# Altium footprint library WR-PHD_Pin Header.PcbLib: 232 footprints (part 8 of 15)
Each footprint in its own frame and in the unit in brackets; x right, y up, seen from the top. Pads: shape width x height; smd on the part's side, far side on the other; paste and mask are expansions set on the pad; w line width, h text height; cw(c..) or ccw(c..) is an arc to the next point about the centre after c.
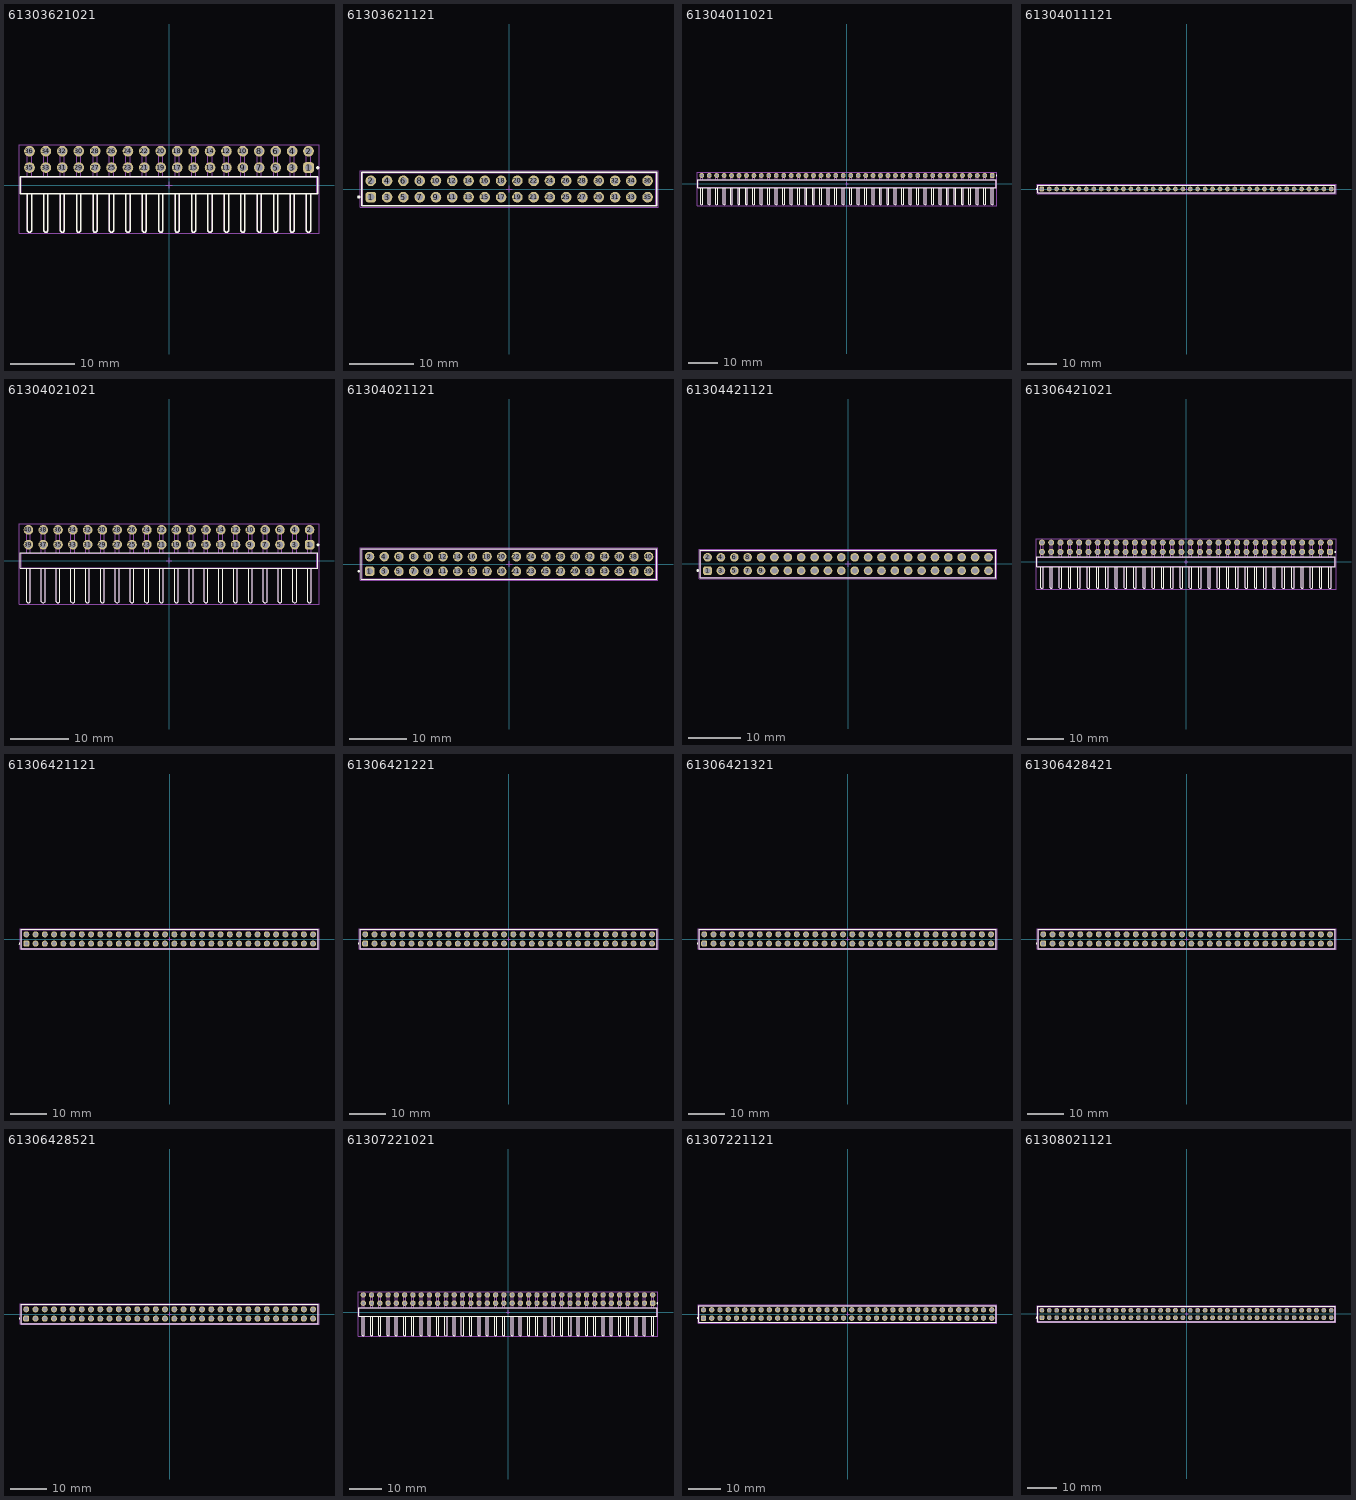
[diagram p7: the footprints below, top view; thin cyan lines are the x and y axes]

## 61303621021 [mm] "Pin Header, pitch 2.54 mm, THT, Angled, dual row, 36p"
height 5.08
pads (36):
  rrect50% 1.65x1.65 hole 1.1: 1(21.59,2.73)
  round 1.65 hole 1.1: 2(21.59,5.27) 3(19.05,2.73) 4(19.05,5.27) 5(16.51,2.73) 6(16.51,5.27) 7(13.97,2.73) 8(13.97,5.27) 9(11.43,2.73) 10(11.43,5.27) 11(8.89,2.73) 12(8.89,5.27) 13(6.35,2.73) 14(6.35,5.27) 15(3.81,2.73) 16(3.81,5.27) 17(1.27,2.73) 18(1.27,5.27) 19(-1.27,2.73) 20(-1.27,5.27) 21(-3.81,2.73) 22(-3.81,5.27) 23(-6.35,2.73) 24(-6.35,5.27) 25(-8.89,2.73) 26(-8.89,5.27) 27(-11.43,2.73) 28(-11.43,5.27) 29(-13.97,2.73) 30(-13.97,5.27) 31(-16.51,2.73) 32(-16.51,5.27) 33(-19.05,2.73) 34(-19.05,5.27) 35(-21.59,2.73) 36(-21.59,5.27)
Top Overlay:
  circle w0.25: c23.02,2.7 r0.125
  lines w0.2: -21.91,-1.345 -21.91,-7.07 -21.71,-7.27 -21.47,-7.27 -21.27,-7.07 -21.27,-1.345 ; -19.37,-1.345 -19.37,-7.07 -19.17,-7.27 -18.93,-7.27 -18.73,-7.07 -18.73,-1.345 ; -16.83,-1.345 -16.83,-7.07 -16.63,-7.27 -16.39,-7.27 -16.19,-7.07 -16.19,-1.345 ; -14.29,-1.345 -14.29,-7.07 -14.09,-7.27 -13.85,-7.27 -13.65,-7.07 -13.65,-1.345 ; -11.75,-1.345 -11.75,-7.07 -11.55,-7.27 -11.31,-7.27 -11.11,-7.07 -11.11,-1.345 ; -9.21,-1.345 -9.21,-7.07 -9.01,-7.27 -8.77,-7.27 -8.57,-7.07 -8.57,-1.345 ; -6.67,-1.345 -6.67,-7.07 -6.47,-7.27 -6.23,-7.27 -6.03,-7.07 -6.03,-1.345 ; -4.13,-1.345 -4.13,-7.07 -3.93,-7.27 -3.69,-7.27 -3.49,-7.07 -3.49,-1.345 ; -1.59,-1.345 -1.59,-7.07 -1.39,-7.27 -1.15,-7.27 -0.95,-7.07 -0.95,-1.345 ; 0.95,-1.345 0.95,-7.07 1.15,-7.27 1.39,-7.27 1.59,-7.07 1.59,-1.345 ; 3.49,-1.345 3.49,-7.07 3.69,-7.27 3.93,-7.27 4.13,-7.07 4.13,-1.345 ; 6.03,-1.345 6.03,-7.07 6.23,-7.27 6.47,-7.27 6.67,-7.07 6.67,-1.345 ; 8.57,-1.345 8.57,-7.07 8.77,-7.27 9.01,-7.27 9.21,-7.07 9.21,-1.345 ; 11.11,-1.345 11.11,-7.07 11.31,-7.27 11.55,-7.27 11.75,-7.07 11.75,-1.345 ; 13.65,-1.345 13.65,-7.07 13.85,-7.27 14.09,-7.27 14.29,-7.07 14.29,-1.345 ; 16.19,-1.345 16.19,-7.07 16.39,-7.27 16.63,-7.27 16.83,-7.07 16.83,-1.345 ; 18.73,-1.345 18.73,-7.07 18.93,-7.27 19.17,-7.27 19.37,-7.07 19.37,-1.345 ; 21.27,-1.345 21.27,-7.07 21.47,-7.27 21.71,-7.27 21.91,-7.07 21.91,-1.345 ; -23.01,-1.345 23.01,-1.345 23.01,1.345 -23.01,1.345 -23.01,-1.345
Top Designator:
  text ".Designator" at -7.498,-0.5 h1.5
Top Component Outline:
  drawing of 167 lines, arcs and shapes, not listed
Top Courtyard:
  lines w0.05: -23.21,-7.47 23.21,-7.47 23.21,6.295 -23.21,6.295 -23.21,-7.47
Top Component Center:
  lines w0.05: -0.5,0 0.5,0 ; 0,-0.5 0,0.5
3D body "61303621021.stp": height 5.12, standoff -2.96, extent -22.86,-7.27 22.86,5.63

## 61303621121 [mm] "Pin Header, pitch 2.54 mm, THT, Vertical, dual row, 36p"
height 8.54
pads (36):
  rrect50% 1.65x1.65 hole 1.1: 1(-21.59,-1.27)
  round 1.65 hole 1.1: 2(-21.59,1.27) 3(-19.05,-1.27) 4(-19.05,1.27) 5(-16.51,-1.27) 6(-16.51,1.27) 7(-13.97,-1.27) 8(-13.97,1.27) 9(-11.43,-1.27) 10(-11.43,1.27) 11(-8.89,-1.27) 12(-8.89,1.27) 13(-6.35,-1.27) 14(-6.35,1.27) 15(-3.81,-1.27) 16(-3.81,1.27) 17(-1.27,-1.27) 18(-1.27,1.27) 19(1.27,-1.27) 20(1.27,1.27) 21(3.81,-1.27) 22(3.81,1.27) 23(6.35,-1.27) 24(6.35,1.27) 25(8.89,-1.27) 26(8.89,1.27) 27(11.43,-1.27) 28(11.43,1.27) 29(13.97,-1.27) 30(13.97,1.27) 31(16.51,-1.27) 32(16.51,1.27) 33(19.05,-1.27) 34(19.05,1.27) 35(21.59,-1.27) 36(21.59,1.27)
Top Overlay:
  circle w0.25: c-23.47,-1.25 r0.125
  lines w0.2: -23.01,-2.615 -23.01,2.615 23.01,2.615 23.01,-2.615 -23.01,-2.615
Top Designator:
  text ".Designator" at -7.498,-0.5 h1.5
Top Component Outline:
  lines w0.1: -22.86,-2.54 -22.86,2.54 22.86,2.54 22.86,-2.54 -22.86,-2.54
Top Courtyard:
  lines w0.05: -23.21,-2.815 23.21,-2.815 23.21,2.815 -23.21,2.815 -23.21,-2.815
Top Component Center:
  lines w0.05: -0.5,0 0.5,0 ; 0,-0.5 0,0.5
3D body "61303621121.stp": height 8.59, standoff -2.95, extent -22.86,-2.54 22.86,2.54

## 61304011021 [mm] "Pin Header, pitch 2.54 mm, THT, Angled, single row, 40p"
height 2.54
pads (40):
  rrect50% 1.65x1.65 hole 1.1: 1(49.53,2.77)
  round 1.65 hole 1.1: 2(46.99,2.77) 3(44.45,2.77) 4(41.91,2.77) 5(39.37,2.77) 6(36.83,2.77) 7(34.29,2.77) 8(31.75,2.77) 9(29.21,2.77) 10(26.67,2.77) 11(24.13,2.77) 12(21.59,2.77) 13(19.05,2.77) 14(16.51,2.77) 15(13.97,2.77) 16(11.43,2.77) 17(8.89,2.77) 18(6.35,2.77) 19(3.81,2.77) 20(1.27,2.77) 21(-1.27,2.77) 22(-3.81,2.77) 23(-6.35,2.77) 24(-8.89,2.77) 25(-11.43,2.77) 26(-13.97,2.77) 27(-16.51,2.77) 28(-19.05,2.77) 29(-21.59,2.77) 30(-24.13,2.77) 31(-26.67,2.77) 32(-29.21,2.77) 33(-31.75,2.77) 34(-34.29,2.77) 35(-36.83,2.77) 36(-39.37,2.77) 37(-41.91,2.77) 38(-44.45,2.77) 39(-46.99,2.77) 40(-49.53,2.77)
Top Overlay:
  drawing of 165 lines, arcs and shapes, not listed
Top Designator:
  text ".Designator" at -7.498,-0.5 h1.5
Top Component Outline:
  drawing of 284 lines, arcs and shapes, not listed
Top Courtyard:
  lines w0.05: -51.15,-7.47 -51.15,3.795 51.15,3.795 51.15,-7.47 -51.15,-7.47
Top Component Center:
  lines w0.05: -0.5,0 0.5,0 ; 0,-0.5 0,0.5
3D body "61304011021.stp": height 2.58, standoff -2.96, extent -50.8,-7.27 50.8,3.09

## 61304011121 [mm] "Pin Header, pitch 2.54 mm, THT, Vertical, single row, 40p"
height 8.54
pads (40):
  rrect50% 1.6x1.6 hole 1.1: 1(-49.53,0)
  round 1.6 hole 1.1: 2(-46.99,0) 3(-44.45,0) 4(-41.91,0) 5(-39.37,0) 6(-36.83,0) 7(-34.29,0) 8(-31.75,0) 9(-29.21,0) 10(-26.67,0) 11(-24.13,0) 12(-21.59,0) 13(-19.05,0) 14(-16.51,0) 15(-13.97,0) 16(-11.43,0) 17(-8.89,0) 18(-6.35,0) 19(-3.81,0) 20(-1.27,0) 21(1.27,0) 22(3.81,0) 23(6.35,0) 24(8.89,0) 25(11.43,0) 26(13.97,0) 27(16.51,0) 28(19.05,0) 29(21.59,0) 30(24.13,0) 31(26.67,0) 32(29.21,0) 33(31.75,0) 34(34.29,0) 35(36.83,0) 36(39.37,0) 37(41.91,0) 38(44.45,0) 39(46.99,0) 40(49.53,0)
Top Overlay:
  circle w0.25: c-51.4,0 r0.125
  lines w0.2: -50.95,-1.345 -50.95,1.345 50.95,1.345 50.95,-1.345 -50.95,-1.345
Top Designator:
  text ".Designator" at -7.498,-0.5 h1.5
Top Component Outline:
  lines w0.1: -50.8,-1.27 -50.8,1.27 50.8,1.27 50.8,-1.27 -50.8,-1.27
Top Courtyard:
  lines w0.05: -51.15,-1.545 51.15,-1.545 51.15,1.545 -51.15,1.545 -51.15,-1.545
Top Component Center:
  lines w0.05: -0.5,0 0.5,0 ; 0,-0.5 0,0.5
3D body "61304011121.stp": height 8.57, standoff -2.97, extent -50.8,-1.27 50.8,1.27

## 61304021021 [mm] "Pin Header, pitch 2.54 mm, THT, Angled, dual row, 40p"
height 5.08
pads (40):
  rrect50% 1.65x1.65 hole 1.1: 1(24.13,2.73)
  round 1.65 hole 1.1: 2(24.13,5.27) 3(21.59,2.73) 4(21.59,5.27) 5(19.05,2.73) 6(19.05,5.27) 7(16.51,2.73) 8(16.51,5.27) 9(13.97,2.73) 10(13.97,5.27) 11(11.43,2.73) 12(11.43,5.27) 13(8.89,2.73) 14(8.89,5.27) 15(6.35,2.73) 16(6.35,5.27) 17(3.81,2.73) 18(3.81,5.27) 19(1.27,2.73) 20(1.27,5.27) 21(-1.27,2.73) 22(-1.27,5.27) 23(-3.81,2.73) 24(-3.81,5.27) 25(-6.35,2.73) 26(-6.35,5.27) 27(-8.89,2.73) 28(-8.89,5.27) 29(-11.43,2.73) 30(-11.43,5.27) 31(-13.97,2.73) 32(-13.97,5.27) 33(-16.51,2.73) 34(-16.51,5.27) 35(-19.05,2.73) 36(-19.05,5.27) 37(-21.59,2.73) 38(-21.59,5.27) 39(-24.13,2.73) 40(-24.13,5.27)
Top Overlay:
  circle w0.25: c25.56,2.7 r0.125
  lines w0.2: -24.45,-1.345 -24.45,-7.07 -24.25,-7.27 -24.01,-7.27 -23.81,-7.07 -23.81,-1.345 ; -21.91,-1.345 -21.91,-7.07 -21.71,-7.27 -21.47,-7.27 -21.27,-7.07 -21.27,-1.345 ; -19.37,-1.345 -19.37,-7.07 -19.17,-7.27 -18.93,-7.27 -18.73,-7.07 -18.73,-1.345 ; -16.83,-1.345 -16.83,-7.07 -16.63,-7.27 -16.39,-7.27 -16.19,-7.07 -16.19,-1.345 ; -14.29,-1.345 -14.29,-7.07 -14.09,-7.27 -13.85,-7.27 -13.65,-7.07 -13.65,-1.345 ; -11.75,-1.345 -11.75,-7.07 -11.55,-7.27 -11.31,-7.27 -11.11,-7.07 -11.11,-1.345 ; -9.21,-1.345 -9.21,-7.07 -9.01,-7.27 -8.77,-7.27 -8.57,-7.07 -8.57,-1.345 ; -6.67,-1.345 -6.67,-7.07 -6.47,-7.27 -6.23,-7.27 -6.03,-7.07 -6.03,-1.345 ; -4.13,-1.345 -4.13,-7.07 -3.93,-7.27 -3.69,-7.27 -3.49,-7.07 -3.49,-1.345 ; -1.59,-1.345 -1.59,-7.07 -1.39,-7.27 -1.15,-7.27 -0.95,-7.07 -0.95,-1.345 ; 0.95,-1.345 0.95,-7.07 1.15,-7.27 1.39,-7.27 1.59,-7.07 1.59,-1.345 ; 3.49,-1.345 3.49,-7.07 3.69,-7.27 3.93,-7.27 4.13,-7.07 4.13,-1.345 ; 6.03,-1.345 6.03,-7.07 6.23,-7.27 6.47,-7.27 6.67,-7.07 6.67,-1.345 ; 8.57,-1.345 8.57,-7.07 8.77,-7.27 9.01,-7.27 9.21,-7.07 9.21,-1.345 ; 11.11,-1.345 11.11,-7.07 11.31,-7.27 11.55,-7.27 11.75,-7.07 11.75,-1.345 ; 13.65,-1.345 13.65,-7.07 13.85,-7.27 14.09,-7.27 14.29,-7.07 14.29,-1.345 ; 16.19,-1.345 16.19,-7.07 16.39,-7.27 16.63,-7.27 16.83,-7.07 16.83,-1.345 ; 18.73,-1.345 18.73,-7.07 18.93,-7.27 19.17,-7.27 19.37,-7.07 19.37,-1.345 ; 21.27,-1.345 21.27,-7.07 21.47,-7.27 21.71,-7.27 21.91,-7.07 21.91,-1.345 ; 23.81,-1.345 23.81,-7.07 24.01,-7.27 24.25,-7.27 24.45,-7.07 24.45,-1.345 ; -25.55,-1.345 -25.55,1.345 25.55,1.345 25.55,-1.345 -25.55,-1.345
Top Designator:
  text ".Designator" at -7.498,-0.5 h1.5
Top Component Outline:
  drawing of 185 lines, arcs and shapes, not listed
Top Courtyard:
  lines w0.05: -25.75,-7.47 -25.75,6.295 25.75,6.295 25.75,-7.47 -25.75,-7.47
Top Component Center:
  lines w0.05: -0.5,0 0.5,0 ; 0,-0.5 0,0.5
3D body "61304021021.stp": height 5.12, standoff -2.96, extent -25.4,-7.27 25.4,5.63

## 61304021121 [mm] "Pin Header, pitch 2.54 mm, THT, Vertical, dual row, 40p"
height 8.54
pads (40):
  rrect50% 1.65x1.65 hole 1.1: 1(-24.13,-1.27)
  round 1.65 hole 1.1: 2(-24.13,1.27) 3(-21.59,-1.27) 4(-21.59,1.27) 5(-19.05,-1.27) 6(-19.05,1.27) 7(-16.51,-1.27) 8(-16.51,1.27) 9(-13.97,-1.27) 10(-13.97,1.27) 11(-11.43,-1.27) 12(-11.43,1.27) 13(-8.89,-1.27) 14(-8.89,1.27) 15(-6.35,-1.27) 16(-6.35,1.27) 17(-3.81,-1.27) 18(-3.81,1.27) 19(-1.27,-1.27) 20(-1.27,1.27) 21(1.27,-1.27) 22(1.27,1.27) 23(3.81,-1.27) 24(3.81,1.27) 25(6.35,-1.27) 26(6.35,1.27) 27(8.89,-1.27) 28(8.89,1.27) 29(11.43,-1.27) 30(11.43,1.27) 31(13.97,-1.27) 32(13.97,1.27) 33(16.51,-1.27) 34(16.51,1.27) 35(19.05,-1.27) 36(19.05,1.27) 37(21.59,-1.27) 38(21.59,1.27) 39(24.13,-1.27) 40(24.13,1.27)
Top Overlay:
  circle w0.25: c-26.01,-1.25 r0.125
  lines w0.2: -25.55,-2.615 25.55,-2.615 25.55,2.615 -25.55,2.615 -25.55,-2.615
Top Designator:
  text ".Designator" at -7.498,-0.5 h1.5
Top Component Outline:
  lines w0.1: -25.4,-2.54 25.4,-2.54 25.4,2.54 -25.4,2.54 -25.4,-2.54
Top Courtyard:
  lines w0.05: -25.75,-2.815 -25.75,2.815 25.75,2.815 25.75,-2.815 -25.75,-2.815
Top Component Center:
  lines w0.05: -0.5,0 0.5,0 ; 0,-0.5 0,0.5
3D body "61304021121.stp": height 8.59, standoff -2.95, extent -25.4,-2.54 25.4,2.54

## 61304421121 [mm] "Pin Header, pitch 2.54 mm, THT, Vertical, dual row, 44p"
height 8.54
pads (44):
  rrect50% 1.65x1.65 hole 1.1: 1(-26.67,-1.27)
  round 1.65 hole 1.1: 2(-26.67,1.27) 3(-24.13,-1.27) 4(-24.13,1.27) 5(-21.59,-1.27) 6(-21.59,1.27) 7(-19.05,-1.27) 8(-19.05,1.27) 9(-16.51,-1.27) 10(-16.51,1.27) 11(-13.97,-1.27) 12(-13.97,1.27) 13(-11.43,-1.27) 14(-11.43,1.27) 15(-8.89,-1.27) 16(-8.89,1.27) 17(-6.35,-1.27) 18(-6.35,1.27) 19(-3.81,-1.27) 20(-3.81,1.27) 21(-1.27,-1.27) 22(-1.27,1.27) 23(1.27,-1.27) 24(1.27,1.27) 25(3.81,-1.27) 26(3.81,1.27) 27(6.35,-1.27) 28(6.35,1.27) 29(8.89,-1.27) 30(8.89,1.27) 31(11.43,-1.27) 32(11.43,1.27) 33(13.97,-1.27) 34(13.97,1.27) 35(16.51,-1.27) 36(16.51,1.27) 37(19.05,-1.27) 38(19.05,1.27) 39(21.59,-1.27) 40(21.59,1.27) 41(24.13,-1.27) 42(24.13,1.27) 43(26.67,-1.27) 44(26.67,1.27)
Top Overlay:
  circle w0.25: c-28.55,-1.25 r0.125
  lines w0.2: -28.09,-2.615 -28.09,2.615 28.09,2.615 28.09,-2.615 -28.09,-2.615
Top Designator:
  text ".Designator" at -7.498,-0.5 h1.5
Top Component Outline:
  lines w0.1: -27.94,-2.54 -27.94,2.54 27.94,2.54 27.94,-2.54 -27.94,-2.54
Top Courtyard:
  lines w0.05: -28.29,-2.815 28.29,-2.815 28.29,2.815 -28.29,2.815 -28.29,-2.815
Top Component Center:
  lines w0.05: -0.5,0 0.5,0 ; 0,-0.5 0,0.5
3D body "61304421121.stp": height 8.59, standoff -2.95, extent -27.94,-2.54 27.94,2.54

## 61306421021 [mm] "Pin Header, pitch 2.54 mm, THT, Angled, dual row, 64p"
height 5.08
pads (64):
  rrect50% 1.65x1.65 hole 1.1: 1(39.37,2.73)
  round 1.65 hole 1.1: 2(39.37,5.27) 3(36.83,2.73) 4(36.83,5.27) 5(34.29,2.73) 6(34.29,5.27) 7(31.75,2.73) 8(31.75,5.27) 9(29.21,2.73) 10(29.21,5.27) 11(26.67,2.73) 12(26.67,5.27) 13(24.13,2.73) 14(24.13,5.27) 15(21.59,2.73) 16(21.59,5.27) 17(19.05,2.73) 18(19.05,5.27) 19(16.51,2.73) 20(16.51,5.27) 21(13.97,2.73) 22(13.97,5.27) 23(11.43,2.73) 24(11.43,5.27) 25(8.89,2.73) 26(8.89,5.27) 27(6.35,2.73) 28(6.35,5.27) 29(3.81,2.73) 30(3.81,5.27) 31(1.27,2.73) 32(1.27,5.27) 33(-1.27,2.73) 34(-1.27,5.27) 35(-3.81,2.73) 36(-3.81,5.27) 37(-6.35,2.73) 38(-6.35,5.27) 39(-8.89,2.73) 40(-8.89,5.27) 41(-11.43,2.73) 42(-11.43,5.27) 43(-13.97,2.73) 44(-13.97,5.27) 45(-16.51,2.73) 46(-16.51,5.27) 47(-19.05,2.73) 48(-19.05,5.27) 49(-21.59,2.73) 50(-21.59,5.27) 51(-24.13,2.73) 52(-24.13,5.27) 53(-26.67,2.73) 54(-26.67,5.27) 55(-29.21,2.73) 56(-29.21,5.27) 57(-31.75,2.73) 58(-31.75,5.27) 59(-34.29,2.73) 60(-34.29,5.27) 61(-36.83,2.73) 62(-36.83,5.27) 63(-39.37,2.73) 64(-39.37,5.27)
Top Overlay:
  drawing of 165 lines, arcs and shapes, not listed
Top Designator:
  text ".Designator" at -7.498,-0.5 h1.5
Top Component Outline:
  drawing of 293 lines, arcs and shapes, not listed
Top Courtyard:
  lines w0.05: -40.99,-7.47 -40.99,6.295 40.99,6.295 40.99,-7.47 -40.99,-7.47
Top Component Center:
  lines w0.05: -0.5,0 0.5,0 ; 0,-0.5 0,0.5
3D body "61306421021.stp": height 5.12, standoff -2.96, extent -40.64,-7.27 40.64,5.63

## 61306421121 [mm] "Pin Header, pitch 2.54 mm, THT, Vertical, dual row, 64p"
height 8.54
pads (64):
  rrect50% 1.65x1.65 hole 1.1: 1(-39.37,-1.27)
  round 1.65 hole 1.1: 2(-39.37,1.27) 3(-36.83,-1.27) 4(-36.83,1.27) 5(-34.29,-1.27) 6(-34.29,1.27) 7(-31.75,-1.27) 8(-31.75,1.27) 9(-29.21,-1.27) 10(-29.21,1.27) 11(-26.67,-1.27) 12(-26.67,1.27) 13(-24.13,-1.27) 14(-24.13,1.27) 15(-21.59,-1.27) 16(-21.59,1.27) 17(-19.05,-1.27) 18(-19.05,1.27) 19(-16.51,-1.27) 20(-16.51,1.27) 21(-13.97,-1.27) 22(-13.97,1.27) 23(-11.43,-1.27) 24(-11.43,1.27) 25(-8.89,-1.27) 26(-8.89,1.27) 27(-6.35,-1.27) 28(-6.35,1.27) 29(-3.81,-1.27) 30(-3.81,1.27) 31(-1.27,-1.27) 32(-1.27,1.27) 33(1.27,-1.27) 34(1.27,1.27) 35(3.81,-1.27) 36(3.81,1.27) 37(6.35,-1.27) 38(6.35,1.27) 39(8.89,-1.27) 40(8.89,1.27) 41(11.43,-1.27) 42(11.43,1.27) 43(13.97,-1.27) 44(13.97,1.27) 45(16.51,-1.27) 46(16.51,1.27) 47(19.05,-1.27) 48(19.05,1.27) 49(21.59,-1.27) 50(21.59,1.27) 51(24.13,-1.27) 52(24.13,1.27) 53(26.67,-1.27) 54(26.67,1.27) 55(29.21,-1.27) 56(29.21,1.27) 57(31.75,-1.27) 58(31.75,1.27) 59(34.29,-1.27) 60(34.29,1.27) 61(36.83,-1.27) 62(36.83,1.27) 63(39.37,-1.27) 64(39.37,1.27)
Top Overlay:
  circle w0.25: c-41.25,-1.25 r0.125
  lines w0.2: -40.79,-2.615 40.79,-2.615 40.79,2.615 -40.79,2.615 -40.79,-2.615
Top Designator:
  text ".Designator" at -7.498,-0.5 h1.5
Top Component Outline:
  lines w0.1: -40.64,-2.54 40.64,-2.54 40.64,2.54 -40.64,2.54 -40.64,-2.54
Top Courtyard:
  lines w0.05: -40.99,-2.815 -40.99,2.815 40.99,2.815 40.99,-2.815 -40.99,-2.815
Top Component Center:
  lines w0.05: -0.5,0 0.5,0 ; 0,-0.5 0,0.5
3D body "61306421121.stp": height 8.59, standoff -2.95, extent -40.64,-2.54 40.64,2.54

## 61306421221 [mm] "Pin Header, pitch 2.54 mm, THT, Vertical, dual row, 64p"
height 18.24
pads (64):
  rrect50% 1.65x1.65 hole 1.1: 1(-39.37,-1.27)
  round 1.65 hole 1.1: 2(-39.37,1.27) 3(-36.83,-1.27) 4(-36.83,1.27) 5(-34.29,-1.27) 6(-34.29,1.27) 7(-31.75,-1.27) 8(-31.75,1.27) 9(-29.21,-1.27) 10(-29.21,1.27) 11(-26.67,-1.27) 12(-26.67,1.27) 13(-24.13,-1.27) 14(-24.13,1.27) 15(-21.59,-1.27) 16(-21.59,1.27) 17(-19.05,-1.27) 18(-19.05,1.27) 19(-16.51,-1.27) 20(-16.51,1.27) 21(-13.97,-1.27) 22(-13.97,1.27) 23(-11.43,-1.27) 24(-11.43,1.27) 25(-8.89,-1.27) 26(-8.89,1.27) 27(-6.35,-1.27) 28(-6.35,1.27) 29(-3.81,-1.27) 30(-3.81,1.27) 31(-1.27,-1.27) 32(-1.27,1.27) 33(1.27,-1.27) 34(1.27,1.27) 35(3.81,-1.27) 36(3.81,1.27) 37(6.35,-1.27) 38(6.35,1.27) 39(8.89,-1.27) 40(8.89,1.27) 41(11.43,-1.27) 42(11.43,1.27) 43(13.97,-1.27) 44(13.97,1.27) 45(16.51,-1.27) 46(16.51,1.27) 47(19.05,-1.27) 48(19.05,1.27) 49(21.59,-1.27) 50(21.59,1.27) 51(24.13,-1.27) 52(24.13,1.27) 53(26.67,-1.27) 54(26.67,1.27) 55(29.21,-1.27) 56(29.21,1.27) 57(31.75,-1.27) 58(31.75,1.27) 59(34.29,-1.27) 60(34.29,1.27) 61(36.83,-1.27) 62(36.83,1.27) 63(39.37,-1.27) 64(39.37,1.27)
Top Overlay:
  circle w0.25: c-41.233,-1.245 r0.125
  lines w0.2: -40.79,-2.615 -40.79,2.615 40.79,2.615 40.79,-2.615 -40.79,-2.615
Top Designator:
  text ".Designator" at -7.498,-0.5 h1.5
Top Component Outline:
  lines w0.1: -40.64,-2.54 40.64,-2.54 40.64,2.54 -40.64,2.54 -40.64,-2.54
Top Courtyard:
  lines w0.05: -40.99,-2.815 40.99,-2.815 40.99,2.815 -40.99,2.815 -40.99,-2.815
Top Component Center:
  lines w0.05: -0.5,0 0.5,0 ; 0,-0.5 0,0.5
3D body "61306421221.stp": height 18.32, standoff -2.92, extent -40.64,-2.54 40.64,2.54

## 61306421321 [mm] "Pin Header, pitch 2.54 mm, THT, Vertical, dual row, 64p"
height 33.48
pads (64):
  rrect50% 1.65x1.65 hole 1.1: 1(-39.37,-1.27)
  round 1.65 hole 1.1: 2(-39.37,1.27) 3(-36.83,-1.27) 4(-36.83,1.27) 5(-34.29,-1.27) 6(-34.29,1.27) 7(-31.75,-1.27) 8(-31.75,1.27) 9(-29.21,-1.27) 10(-29.21,1.27) 11(-26.67,-1.27) 12(-26.67,1.27) 13(-24.13,-1.27) 14(-24.13,1.27) 15(-21.59,-1.27) 16(-21.59,1.27) 17(-19.05,-1.27) 18(-19.05,1.27) 19(-16.51,-1.27) 20(-16.51,1.27) 21(-13.97,-1.27) 22(-13.97,1.27) 23(-11.43,-1.27) 24(-11.43,1.27) 25(-8.89,-1.27) 26(-8.89,1.27) 27(-6.35,-1.27) 28(-6.35,1.27) 29(-3.81,-1.27) 30(-3.81,1.27) 31(-1.27,-1.27) 32(-1.27,1.27) 33(1.27,-1.27) 34(1.27,1.27) 35(3.81,-1.27) 36(3.81,1.27) 37(6.35,-1.27) 38(6.35,1.27) 39(8.89,-1.27) 40(8.89,1.27) 41(11.43,-1.27) 42(11.43,1.27) 43(13.97,-1.27) 44(13.97,1.27) 45(16.51,-1.27) 46(16.51,1.27) 47(19.05,-1.27) 48(19.05,1.27) 49(21.59,-1.27) 50(21.59,1.27) 51(24.13,-1.27) 52(24.13,1.27) 53(26.67,-1.27) 54(26.67,1.27) 55(29.21,-1.27) 56(29.21,1.27) 57(31.75,-1.27) 58(31.75,1.27) 59(34.29,-1.27) 60(34.29,1.27) 61(36.83,-1.27) 62(36.83,1.27) 63(39.37,-1.27) 64(39.37,1.27)
Top Overlay:
  circle w0.25: c-41.233,-1.245 r0.125
  lines w0.2: -40.79,-2.615 -40.79,2.615 40.79,2.615 40.79,-2.615 -40.79,-2.615
Top Designator:
  text ".Designator" at -7.498,-0.5 h1.5
Top Component Outline:
  lines w0.1: -40.64,-2.54 40.64,-2.54 40.64,2.54 -40.64,2.54 -40.64,-2.54
Top Courtyard:
  lines w0.05: -40.99,-2.815 40.99,-2.815 40.99,2.815 -40.99,2.815 -40.99,-2.815
Top Component Center:
  lines w0.05: -0.5,0 0.5,0 ; 0,-0.5 0,0.5
3D body "61306421321.stp": height 33.54, standoff -2.94, extent -40.64,-2.54 40.64,2.54

## 61306428421 [mm] "Pin Header, pitch 2.54 mm, THT, Vertical, dual row, 64p"
height 19.24
pads (64):
  rrect50% 1.65x1.65 hole 1.1: 1(-39.37,-1.27)
  round 1.65 hole 1.1: 2(-39.37,1.27) 3(-36.83,-1.27) 4(-36.83,1.27) 5(-34.29,-1.27) 6(-34.29,1.27) 7(-31.75,-1.27) 8(-31.75,1.27) 9(-29.21,-1.27) 10(-29.21,1.27) 11(-26.67,-1.27) 12(-26.67,1.27) 13(-24.13,-1.27) 14(-24.13,1.27) 15(-21.59,-1.27) 16(-21.59,1.27) 17(-19.05,-1.27) 18(-19.05,1.27) 19(-16.51,-1.27) 20(-16.51,1.27) 21(-13.97,-1.27) 22(-13.97,1.27) 23(-11.43,-1.27) 24(-11.43,1.27) 25(-8.89,-1.27) 26(-8.89,1.27) 27(-6.35,-1.27) 28(-6.35,1.27) 29(-3.81,-1.27) 30(-3.81,1.27) 31(-1.27,-1.27) 32(-1.27,1.27) 33(1.27,-1.27) 34(1.27,1.27) 35(3.81,-1.27) 36(3.81,1.27) 37(6.35,-1.27) 38(6.35,1.27) 39(8.89,-1.27) 40(8.89,1.27) 41(11.43,-1.27) 42(11.43,1.27) 43(13.97,-1.27) 44(13.97,1.27) 45(16.51,-1.27) 46(16.51,1.27) 47(19.05,-1.27) 48(19.05,1.27) 49(21.59,-1.27) 50(21.59,1.27) 51(24.13,-1.27) 52(24.13,1.27) 53(26.67,-1.27) 54(26.67,1.27) 55(29.21,-1.27) 56(29.21,1.27) 57(31.75,-1.27) 58(31.75,1.27) 59(34.29,-1.27) 60(34.29,1.27) 61(36.83,-1.27) 62(36.83,1.27) 63(39.37,-1.27) 64(39.37,1.27)
Top Overlay:
  circle w0.25: c-41.233,-1.245 r0.125
  lines w0.2: -40.79,-2.615 -40.79,2.615 40.79,2.615 40.79,-2.615 -40.79,-2.615
Top Designator:
  text ".Designator" at -7.498,-0.5 h1.5
Top Component Outline:
  lines w0.1: -40.64,-2.54 40.64,-2.54 40.64,2.54 -40.64,2.54 -40.64,-2.54
Top Courtyard:
  lines w0.05: -40.99,-2.815 40.99,-2.815 40.99,2.815 -40.99,2.815 -40.99,-2.815
Top Component Center:
  lines w0.05: -0.5,0 0.5,0 ; 0,-0.5 0,0.5
3D body "61306428421.stp": height 21.32, standoff -2.92, extent -40.64,-2.54 40.64,2.54

## 61306428521 [mm] "Pin Header, pitch 2.54 mm, THT, Vertical, dual row, 64p"
height 36.48
pads (64):
  rrect50% 1.65x1.65 hole 1.1: 1(-39.37,-1.27)
  round 1.65 hole 1.1: 2(-39.37,1.27) 3(-36.83,-1.27) 4(-36.83,1.27) 5(-34.29,-1.27) 6(-34.29,1.27) 7(-31.75,-1.27) 8(-31.75,1.27) 9(-29.21,-1.27) 10(-29.21,1.27) 11(-26.67,-1.27) 12(-26.67,1.27) 13(-24.13,-1.27) 14(-24.13,1.27) 15(-21.59,-1.27) 16(-21.59,1.27) 17(-19.05,-1.27) 18(-19.05,1.27) 19(-16.51,-1.27) 20(-16.51,1.27) 21(-13.97,-1.27) 22(-13.97,1.27) 23(-11.43,-1.27) 24(-11.43,1.27) 25(-8.89,-1.27) 26(-8.89,1.27) 27(-6.35,-1.27) 28(-6.35,1.27) 29(-3.81,-1.27) 30(-3.81,1.27) 31(-1.27,-1.27) 32(-1.27,1.27) 33(1.27,-1.27) 34(1.27,1.27) 35(3.81,-1.27) 36(3.81,1.27) 37(6.35,-1.27) 38(6.35,1.27) 39(8.89,-1.27) 40(8.89,1.27) 41(11.43,-1.27) 42(11.43,1.27) 43(13.97,-1.27) 44(13.97,1.27) 45(16.51,-1.27) 46(16.51,1.27) 47(19.05,-1.27) 48(19.05,1.27) 49(21.59,-1.27) 50(21.59,1.27) 51(24.13,-1.27) 52(24.13,1.27) 53(26.67,-1.27) 54(26.67,1.27) 55(29.21,-1.27) 56(29.21,1.27) 57(31.75,-1.27) 58(31.75,1.27) 59(34.29,-1.27) 60(34.29,1.27) 61(36.83,-1.27) 62(36.83,1.27) 63(39.37,-1.27) 64(39.37,1.27)
Top Overlay:
  circle w0.25: c-41.233,-1.245 r0.125
  lines w0.2: -40.79,-2.615 40.79,-2.615 40.79,2.615 -40.79,2.615 -40.79,-2.615
Top Designator:
  text ".Designator" at -7.498,-0.5 h1.5
Top Component Outline:
  lines w0.1: -40.64,-2.54 -40.64,2.54 40.64,2.54 40.64,-2.54 -40.64,-2.54
Top Courtyard:
  lines w0.05: -40.99,-2.815 -40.99,2.815 40.99,2.815 40.99,-2.815 -40.99,-2.815
Top Component Center:
  lines w0.05: -0.5,0 0.5,0 ; 0,-0.5 0,0.5
3D body "61306428521.stp": height 36.54, standoff -2.94, extent -40.64,-2.54 40.64,2.54

## 61307221021 [mm] "Pin Header, pitch 2.54 mm, THT, Angled, dual row, 72p"
height 5.08
pads (72):
  rrect50% 1.65x1.65 hole 1.1: 1(44.45,2.73)
  round 1.65 hole 1.1: 2(44.45,5.27) 3(41.91,2.73) 4(41.91,5.27) 5(39.37,2.73) 6(39.37,5.27) 7(36.83,2.73) 8(36.83,5.27) 9(34.29,2.73) 10(34.29,5.27) 11(31.75,2.73) 12(31.75,5.27) 13(29.21,2.73) 14(29.21,5.27) 15(26.67,2.73) 16(26.67,5.27) 17(24.13,2.73) 18(24.13,5.27) 19(21.59,2.73) 20(21.59,5.27) 21(19.05,2.73) 22(19.05,5.27) 23(16.51,2.73) 24(16.51,5.27) 25(13.97,2.73) 26(13.97,5.27) 27(11.43,2.73) 28(11.43,5.27) 29(8.89,2.73) 30(8.89,5.27) 31(6.35,2.73) 32(6.35,5.27) 33(3.81,2.73) 34(3.81,5.27) 35(1.27,2.73) 36(1.27,5.27) 37(-1.27,2.73) 38(-1.27,5.27) 39(-3.81,2.73) 40(-3.81,5.27) 41(-6.35,2.73) 42(-6.35,5.27) 43(-8.89,2.73) 44(-8.89,5.27) 45(-11.43,2.73) 46(-11.43,5.27) 47(-13.97,2.73) 48(-13.97,5.27) 49(-16.51,2.73) 50(-16.51,5.27) 51(-19.05,2.73) 52(-19.05,5.27) 53(-21.59,2.73) 54(-21.59,5.27) 55(-24.13,2.73) 56(-24.13,5.27) 57(-26.67,2.73) 58(-26.67,5.27) 59(-29.21,2.73) 60(-29.21,5.27) 61(-31.75,2.73) 62(-31.75,5.27) 63(-34.29,2.73) 64(-34.29,5.27) 65(-36.83,2.73) 66(-36.83,5.27) 67(-39.37,2.73) 68(-39.37,5.27) 69(-41.91,2.73) 70(-41.91,5.27) 71(-44.45,2.73) 72(-44.45,5.27)
Top Overlay:
  drawing of 185 lines, arcs and shapes, not listed
Top Designator:
  text ".Designator" at -7.498,-0.5 h1.5
Top Component Outline:
  drawing of 329 lines, arcs and shapes, not listed
Top Courtyard:
  lines w0.05: -46.07,-7.47 46.07,-7.47 46.07,6.295 -46.07,6.295 -46.07,-7.47
Top Component Center:
  lines w0.05: -0.5,0 0.5,0 ; 0,-0.5 0,0.5
3D body "61307221021.stp": height 5.12, standoff -2.96, extent -45.72,-7.27 45.72,5.63

## 61307221121 [mm] "Pin Header, pitch 2.54 mm, THT, Vertical, dual row, 72p"
height 8.54
pads (72):
  rrect50% 1.65x1.65 hole 1.1: 1(-44.45,-1.27)
  round 1.65 hole 1.1: 2(-44.45,1.27) 3(-41.91,-1.27) 4(-41.91,1.27) 5(-39.37,-1.27) 6(-39.37,1.27) 7(-36.83,-1.27) 8(-36.83,1.27) 9(-34.29,-1.27) 10(-34.29,1.27) 11(-31.75,-1.27) 12(-31.75,1.27) 13(-29.21,-1.27) 14(-29.21,1.27) 15(-26.67,-1.27) 16(-26.67,1.27) 17(-24.13,-1.27) 18(-24.13,1.27) 19(-21.59,-1.27) 20(-21.59,1.27) 21(-19.05,-1.27) 22(-19.05,1.27) 23(-16.51,-1.27) 24(-16.51,1.27) 25(-13.97,-1.27) 26(-13.97,1.27) 27(-11.43,-1.27) 28(-11.43,1.27) 29(-8.89,-1.27) 30(-8.89,1.27) 31(-6.35,-1.27) 32(-6.35,1.27) 33(-3.81,-1.27) 34(-3.81,1.27) 35(-1.27,-1.27) 36(-1.27,1.27) 37(1.27,-1.27) 38(1.27,1.27) 39(3.81,-1.27) 40(3.81,1.27) 41(6.35,-1.27) 42(6.35,1.27) 43(8.89,-1.27) 44(8.89,1.27) 45(11.43,-1.27) 46(11.43,1.27) 47(13.97,-1.27) 48(13.97,1.27) 49(16.51,-1.27) 50(16.51,1.27) 51(19.05,-1.27) 52(19.05,1.27) 53(21.59,-1.27) 54(21.59,1.27) 55(24.13,-1.27) 56(24.13,1.27) 57(26.67,-1.27) 58(26.67,1.27) 59(29.21,-1.27) 60(29.21,1.27) 61(31.75,-1.27) 62(31.75,1.27) 63(34.29,-1.27) 64(34.29,1.27) 65(36.83,-1.27) 66(36.83,1.27) 67(39.37,-1.27) 68(39.37,1.27) 69(41.91,-1.27) 70(41.91,1.27) 71(44.45,-1.27) 72(44.45,1.27)
Top Overlay:
  circle w0.25: c-46.33,-1.25 r0.125
  lines w0.2: -45.87,-2.615 -45.87,2.615 45.87,2.615 45.87,-2.615 -45.87,-2.615
Top Designator:
  text ".Designator" at -7.498,-0.5 h1.5
Top Component Outline:
  lines w0.1: -45.72,-2.54 -45.72,2.54 45.72,2.54 45.72,-2.54 -45.72,-2.54
Top Courtyard:
  lines w0.05: -46.07,-2.815 46.07,-2.815 46.07,2.815 -46.07,2.815 -46.07,-2.815
Top Component Center:
  lines w0.05: -0.5,0 0.5,0 ; 0,-0.5 0,0.5
3D body "61307221121.stp": height 8.59, standoff -2.95, extent -45.72,-2.54 45.72,2.54

## 61308021121 [mm] "Pin Header, pitch 2.54 mm, THT, Vertical, dual row, 80p"
height 8.54
pads (80):
  rrect50% 1.65x1.65 hole 1.1: 1(-49.53,-1.27)
  round 1.65 hole 1.1: 2(-49.53,1.27) 3(-46.99,-1.27) 4(-46.99,1.27) 5(-44.45,-1.27) 6(-44.45,1.27) 7(-41.91,-1.27) 8(-41.91,1.27) 9(-39.37,-1.27) 10(-39.37,1.27) 11(-36.83,-1.27) 12(-36.83,1.27) 13(-34.29,-1.27) 14(-34.29,1.27) 15(-31.75,-1.27) 16(-31.75,1.27) 17(-29.21,-1.27) 18(-29.21,1.27) 19(-26.67,-1.27) 20(-26.67,1.27) 21(-24.13,-1.27) 22(-24.13,1.27) 23(-21.59,-1.27) 24(-21.59,1.27) 25(-19.05,-1.27) 26(-19.05,1.27) 27(-16.51,-1.27) 28(-16.51,1.27) 29(-13.97,-1.27) 30(-13.97,1.27) 31(-11.43,-1.27) 32(-11.43,1.27) 33(-8.89,-1.27) 34(-8.89,1.27) 35(-6.35,-1.27) 36(-6.35,1.27) 37(-3.81,-1.27) 38(-3.81,1.27) 39(-1.27,-1.27) 40(-1.27,1.27) 41(1.27,-1.27) 42(1.27,1.27) 43(3.81,-1.27) 44(3.81,1.27) 45(6.35,-1.27) 46(6.35,1.27) 47(8.89,-1.27) 48(8.89,1.27) 49(11.43,-1.27) 50(11.43,1.27) 51(13.97,-1.27) 52(13.97,1.27) 53(16.51,-1.27) 54(16.51,1.27) 55(19.05,-1.27) 56(19.05,1.27) 57(21.59,-1.27) 58(21.59,1.27) 59(24.13,-1.27) 60(24.13,1.27) 61(26.67,-1.27) 62(26.67,1.27) 63(29.21,-1.27) 64(29.21,1.27) 65(31.75,-1.27) 66(31.75,1.27) 67(34.29,-1.27) 68(34.29,1.27) 69(36.83,-1.27) 70(36.83,1.27) 71(39.37,-1.27) 72(39.37,1.27) 73(41.91,-1.27) 74(41.91,1.27) 75(44.45,-1.27) 76(44.45,1.27) 77(46.99,-1.27) 78(46.99,1.27) 79(49.53,-1.27) 80(49.53,1.27)
Top Overlay:
  circle w0.25: c-51.41,-1.25 r0.125
  lines w0.2: -50.95,-2.615 50.95,-2.615 50.95,2.615 -50.95,2.615 -50.95,-2.615
Top Designator:
  text ".Designator" at -7.498,-0.5 h1.5
Top Component Outline:
  lines w0.1: -50.8,-2.54 50.8,-2.54 50.8,2.54 -50.8,2.54 -50.8,-2.54
Top Courtyard:
  lines w0.05: -51.15,-2.815 -51.15,2.815 51.15,2.815 51.15,-2.815 -51.15,-2.815
Top Component Center:
  lines w0.05: -0.5,0 0.5,0 ; 0,-0.5 0,0.5
3D body "61308021121.stp": height 8.59, standoff -2.95, extent -50.8,-2.54 50.8,2.54